# Altium integrated library Capacitors - Ceramic - 0402.IntLib: 4569 symbols (part 57 of 100)
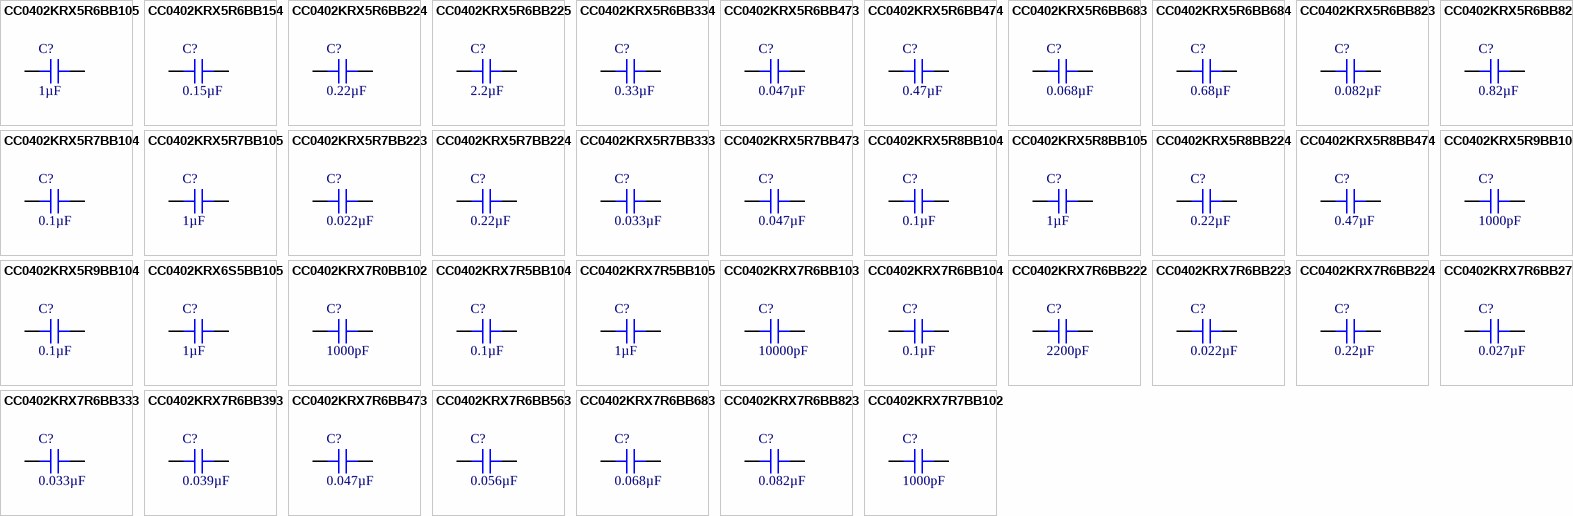
[diagram p170: symbols CC0402KRX5R6BB105 to CC0402KRX7R7BB102]

## CC0402KRX6S5BB105
designator C?, comment 1µF
CAP CER 1UF 6.3V X6S 0402; Part Number: CC0402KRX6S5BB105; Manufacturer: Yageo; Tolerance: ±10%; Value: 1µF; Applications: General Purpose; Capacitance: 1µF; ComponentLink1Description: Datasheet; ComponentLink1URL: http://www.yageo.com/NewPortal/_en/search/productDocs.jsp?YageoPartNumber=CC0402KRX6S5BB105; ComponentLink2Description: DigiKey Link; ComponentLink2URL: http://digikey.com/product-detail/en/yageo/CC0402KRX6S5BB105/311-1700-1-ND/5195602; Device Package: 0402 (1005 Metric); LastUpdated: 9/2/2020 1:02:14 AM; Lifecycle Status: Active; Minimum Order: 1; Mounting Type: Surface Mount, MLCC; Operating Temperature: -55°C ~ 105°C; Package / Case: 0402 (1005 Metric); Packaging: TapeAndReel; PartId: 6532; Part Status: Active; Price: 0.04; Series: CC; Size / Dimension: 0.039" L x 0.020" W (1.00mm x 0.50mm); Supplier 1: DigiKey; Supplier Part Number 1: 311-1700-1-ND; Temperature Coefficient: X6S; Thickness (Max): 0.022" (0.55mm); Voltage - Rated: 6.3V
footprint CAP 0402_1005
pins: 1, 2

## CC0402KRX7R0BB102
designator C?, comment 1000pF
CAP CER 1000PF 100V X7R 0402; Part Number: CC0402KRX7R0BB102; Manufacturer: Yageo; Tolerance: ±10%; Value: 1000pF; Applications: General Purpose; Capacitance: 1000pF; ComponentLink1Description: Datasheet; ComponentLink1URL: https://www.yageo.com/upload/media/product/productsearch/datasheet/mlcc/UPY-GPHC_X7R_6.3V-to-50V_18.pdf; ComponentLink2Description: DigiKey Link; ComponentLink2URL: http://digikey.com/product-detail/en/yageo/CC0402KRX7R0BB102/311-3791-1-ND/8024880; Device Package: 0402 (1005 Metric); LastUpdated: 9/2/2020 1:02:24 AM; Lifecycle Status: Active; Minimum Order: 1; Mounting Type: Surface Mount, MLCC; Operating Temperature: -55°C ~ 125°C; Package / Case: 0402 (1005 Metric); Packaging: TapeAndReel; PartId: 2076; Part Status: Active; Price: 0.02; Series: CC; Size / Dimension: 0.039" L x 0.020" W (1.00mm x 0.50mm); Supplier 1: DigiKey; Supplier Part Number 1: 311-3791-1-ND; Temperature Coefficient: X7R; Thickness (Max): 0.022" (0.55mm); Voltage - Rated: 100V
footprint CAP 0402_1005
pins: 1, 2

## CC0402KRX7R5BB104
designator C?, comment 0.1µF
CAP CER 0.1UF 6.3V X7R 0402; Part Number: CC0402KRX7R5BB104; Manufacturer: Yageo; Tolerance: ±10%; Value: 0.1µF; Applications: General Purpose; Capacitance: 0.1µF; ComponentLink1Description: Datasheet; ComponentLink1URL: https://www.yageo.com/upload/media/product/productsearch/datasheet/mlcc/UPY-GPHC_X7R_6.3V-to-50V_18.pdf; ComponentLink2Description: DigiKey Link; ComponentLink2URL: http://digikey.com/product-detail/en/yageo/CC0402KRX7R5BB104/311-1701-1-ND/5195603; Device Package: 0402 (1005 Metric); LastUpdated: 9/2/2020 1:01:39 AM; Lifecycle Status: Active; Minimum Order: 1; Mounting Type: Surface Mount, MLCC; Operating Temperature: -55°C ~ 125°C; Package / Case: 0402 (1005 Metric); Packaging: TapeAndReel; PartId: 12548; Part Status: Active; Price: 0.01; Series: CC; Size / Dimension: 0.039" L x 0.020" W (1.00mm x 0.50mm); Supplier 1: DigiKey; Supplier Part Number 1: 311-1701-1-ND; Temperature Coefficient: X7R; Thickness (Max): 0.022" (0.55mm); Voltage - Rated: 6.3V
footprint CAP 0402_1005
pins: 1, 2

## CC0402KRX7R5BB105
designator C?, comment 1µF
CAP CER 1UF 6.3V X7R 0402; Part Number: CC0402KRX7R5BB105; Manufacturer: Yageo; Tolerance: ±10%; Value: 1µF; Applications: General Purpose; Capacitance: 1µF; ComponentLink1Description: Datasheet; ComponentLink1URL: https://www.yageo.com/upload/media/product/productsearch/datasheet/mlcc/UPY-GPHC_X7R_6.3V-to-50V_18.pdf; ComponentLink2Description: DigiKey Link; ComponentLink2URL: http://digikey.com/product-detail/en/yageo/CC0402KRX7R5BB105/311-1702-1-ND/5195604; Device Package: 0402 (1005 Metric); LastUpdated: 9/2/2020 1:02:15 AM; Lifecycle Status: Active; Minimum Order: 1; Mounting Type: Surface Mount, MLCC; Operating Temperature: -55°C ~ 125°C; Package / Case: 0402 (1005 Metric); Packaging: TapeAndReel; PartId: 5755; Part Status: Active; Price: 0.05; Series: CC; Size / Dimension: 0.039" L x 0.020" W (1.00mm x 0.50mm); Supplier 1: DigiKey; Supplier Part Number 1: 311-1702-1-ND; Temperature Coefficient: X7R; Thickness (Max): 0.022" (0.55mm); Voltage - Rated: 6.3V
footprint CAP 0402_1005
pins: 1, 2

## CC0402KRX7R6BB103
designator C?, comment 10000pF
CAP CER 10000PF 10V X7R 0402; Part Number: CC0402KRX7R6BB103; Manufacturer: Yageo; Tolerance: ±10%; Value: 10000pF; Applications: General Purpose; Capacitance: 10000pF; ComponentLink1Description: Datasheet; ComponentLink1URL: https://www.yageo.com/upload/media/product/productsearch/datasheet/mlcc/UPY-GPHC_X7R_6.3V-to-50V_18.pdf; ComponentLink2Description: DigiKey Link; ComponentLink2URL: http://digikey.com/product-detail/en/yageo/CC0402KRX7R6BB103/311-1703-1-ND/5195605; Device Package: 0402 (1005 Metric); LastUpdated: 9/2/2020 1:02:06 AM; Lifecycle Status: Active; Minimum Order: 1; Mounting Type: Surface Mount, MLCC; Operating Temperature: -55°C ~ 125°C; Package / Case: 0402 (1005 Metric); Packaging: CutTape; PartId: 9970; Part Status: Active; Price: 0.10; Series: CC; Size / Dimension: 0.039" L x 0.020" W (1.00mm x 0.50mm); Supplier 1: DigiKey; Supplier Part Number 1: 311-1703-1-ND; Temperature Coefficient: X7R; Thickness (Max): 0.022" (0.55mm); Voltage - Rated: 10V
footprint CAP 0402_1005
pins: 1, 2

## CC0402KRX7R6BB104
designator C?, comment 0.1µF
CAP CER 0.1UF 10V X7R 0402; Part Number: CC0402KRX7R6BB104; Manufacturer: Yageo; Tolerance: ±10%; Value: 0.1µF; Applications: General Purpose; Capacitance: 0.1µF; ComponentLink1Description: Datasheet; ComponentLink1URL: https://www.yageo.com/upload/media/product/productsearch/datasheet/mlcc/UPY-GPHC_X7R_6.3V-to-50V_18.pdf; ComponentLink2Description: DigiKey Link; ComponentLink2URL: http://digikey.com/product-detail/en/yageo/CC0402KRX7R6BB104/311-1345-1-ND/2103129; Device Package: 0402 (1005 Metric); LastUpdated: 9/2/2020 1:02:20 AM; Lifecycle Status: Active; Minimum Order: 1; Mounting Type: Surface Mount, MLCC; Operating Temperature: -55°C ~ 125°C; Package / Case: 0402 (1005 Metric); Packaging: CutTape; PartId: 3877; Part Status: Active; Price: 0.10; Series: CC; Size / Dimension: 0.039" L x 0.020" W (1.00mm x 0.50mm); Supplier 1: DigiKey; Supplier Part Number 1: 311-1345-1-ND; Temperature Coefficient: X7R; Thickness (Max): 0.022" (0.55mm); Voltage - Rated: 10V
footprint CAP 0402_1005
pins: 1, 2

## CC0402KRX7R6BB222
designator C?, comment 2200pF
CAP CER 2200PF 10V X7R 0402; Part Number: CC0402KRX7R6BB222; Manufacturer: Yageo; Tolerance: ±10%; Value: 2200pF; Applications: General Purpose; Capacitance: 2200pF; ComponentLink1Description: Datasheet; ComponentLink1URL: https://www.yageo.com/upload/media/product/productsearch/datasheet/mlcc/UPY-GPHC_X7R_6.3V-to-50V_18.pdf; ComponentLink2Description: DigiKey Link; ComponentLink2URL: http://digikey.com/product-detail/en/yageo/CC0402KRX7R6BB222/311-3792-1-ND/8024881; Device Package: 0402 (1005 Metric); LastUpdated: 9/2/2020 1:02:19 AM; Lifecycle Status: Active; Minimum Order: 1; Mounting Type: Surface Mount, MLCC; Operating Temperature: -55°C ~ 125°C; Package / Case: 0402 (1005 Metric); Packaging: CutTape; PartId: 3950; Part Status: Active; Price: 0.10; Series: CC; Size / Dimension: 0.039" L x 0.020" W (1.00mm x 0.50mm); Supplier 1: DigiKey; Supplier Part Number 1: 311-3792-1-ND; Temperature Coefficient: X7R; Thickness (Max): 0.022" (0.55mm); Voltage - Rated: 10V
footprint CAP 0402_1005
pins: 1, 2

## CC0402KRX7R6BB223
designator C?, comment 0.022µF
CAP CER 0.022UF 10V X7R 0402; Part Number: CC0402KRX7R6BB223; Manufacturer: Yageo; Tolerance: ±10%; Value: 0.022µF; Applications: General Purpose; Capacitance: 0.022µF; ComponentLink1Description: Datasheet; ComponentLink1URL: https://www.yageo.com/upload/media/product/productsearch/datasheet/mlcc/UPY-GPHC_X7R_6.3V-to-50V_18.pdf; ComponentLink2Description: DigiKey Link; ComponentLink2URL: http://digikey.com/product-detail/en/yageo/CC0402KRX7R6BB223/311-3793-1-ND/8024882; Device Package: 0402 (1005 Metric); LastUpdated: 9/2/2020 1:02:19 AM; Lifecycle Status: Active; Minimum Order: 1; Mounting Type: Surface Mount, MLCC; Operating Temperature: -55°C ~ 125°C; Package / Case: 0402 (1005 Metric); Packaging: TapeAndReel; PartId: 4019; Part Status: Active; Price: 0.01; Series: CC; Size / Dimension: 0.039" L x 0.020" W (1.00mm x 0.50mm); Supplier 1: DigiKey; Supplier Part Number 1: 311-3793-1-ND; Temperature Coefficient: X7R; Thickness (Max): 0.022" (0.55mm); Voltage - Rated: 10V
footprint CAP 0402_1005
pins: 1, 2

## CC0402KRX7R6BB224
designator C?, comment 0.22µF
CAP CER 0.22UF 10V X7R 0402; Part Number: CC0402KRX7R6BB224; Manufacturer: Yageo; Tolerance: ±10%; Value: 0.22µF; Applications: General Purpose; Capacitance: 0.22µF; ComponentLink1Description: Datasheet; ComponentLink1URL: https://www.yageo.com/upload/media/product/productsearch/datasheet/mlcc/UPY-GPHC_X7R_6.3V-to-50V_18.pdf; ComponentLink2Description: DigiKey Link; ComponentLink2URL: http://digikey.com/product-detail/en/yageo/CC0402KRX7R6BB224/311-3343-1-ND/6818313; Device Package: 0402 (1005 Metric); LastUpdated: 9/2/2020 1:02:14 AM; Lifecycle Status: Active; Minimum Order: 1; Mounting Type: Surface Mount, MLCC; Operating Temperature: -55°C ~ 125°C; Package / Case: 0402 (1005 Metric); Packaging: TapeAndReel; PartId: 6528; Part Status: Active; Price: 0.02; Series: CC; Size / Dimension: 0.039" L x 0.020" W (1.00mm x 0.50mm); Supplier 1: DigiKey; Supplier Part Number 1: 311-3343-1-ND; Temperature Coefficient: X7R; Thickness (Max): 0.022" (0.55mm); Voltage - Rated: 10V
footprint CAP 0402_1005
pins: 1, 2

## CC0402KRX7R6BB273
designator C?, comment 0.027µF
CAP CER 0.027UF 10V X7R 0402; Part Number: CC0402KRX7R6BB273; Manufacturer: Yageo; Tolerance: ±10%; Value: 0.027µF; Applications: General Purpose; Capacitance: 0.027µF; ComponentLink1Description: Datasheet; ComponentLink1URL: https://www.yageo.com/upload/media/product/productsearch/datasheet/mlcc/UPY-GPHC_X7R_6.3V-to-50V_18.pdf; ComponentLink2Description: DigiKey Link; ComponentLink2URL: http://digikey.com/product-detail/en/yageo/CC0402KRX7R6BB273/311-3794-1-ND/8024883; Device Package: 0402 (1005 Metric); LastUpdated: 9/2/2020 1:02:03 AM; Lifecycle Status: Active; Minimum Order: 1; Mounting Type: Surface Mount, MLCC; Operating Temperature: -55°C ~ 125°C; Package / Case: 0402 (1005 Metric); Packaging: TapeAndReel; PartId: 11315; Part Status: Active; Price: 0.01; Series: CC; Size / Dimension: 0.039" L x 0.020" W (1.00mm x 0.50mm); Supplier 1: DigiKey; Supplier Part Number 1: 311-3794-1-ND; Temperature Coefficient: X7R; Thickness (Max): 0.022" (0.55mm); Voltage - Rated: 10V
footprint CAP 0402_1005
pins: 1, 2

## CC0402KRX7R6BB333
designator C?, comment 0.033µF
CAP CER 0.033UF 10V X7R 0402; Part Number: CC0402KRX7R6BB333; Manufacturer: Yageo; Tolerance: ±10%; Value: 0.033µF; Applications: General Purpose; Capacitance: 0.033µF; ComponentLink1Description: Datasheet; ComponentLink1URL: https://www.yageo.com/upload/media/product/productsearch/datasheet/mlcc/UPY-GPHC_X7R_6.3V-to-50V_18.pdf; ComponentLink2Description: DigiKey Link; ComponentLink2URL: http://digikey.com/product-detail/en/yageo/CC0402KRX7R6BB333/311-1704-1-ND/5195606; Device Package: 0402 (1005 Metric); LastUpdated: 9/2/2020 1:01:37 AM; Lifecycle Status: Active; Minimum Order: 1; Mounting Type: Surface Mount, MLCC; Operating Temperature: -55°C ~ 125°C; Package / Case: 0402 (1005 Metric); Packaging: TapeAndReel; PartId: 12651; Part Status: Active; Price: 0.01; Series: CC; Size / Dimension: 0.039" L x 0.020" W (1.00mm x 0.50mm); Supplier 1: DigiKey; Supplier Part Number 1: 311-1704-1-ND; Temperature Coefficient: X7R; Thickness (Max): 0.022" (0.55mm); Voltage - Rated: 10V
footprint CAP 0402_1005
pins: 1, 2

## CC0402KRX7R6BB393
designator C?, comment 0.039µF
CAP CER 0.039UF 10V X7R 0402; Part Number: CC0402KRX7R6BB393; Manufacturer: Yageo; Tolerance: ±10%; Value: 0.039µF; Applications: General Purpose; Capacitance: 0.039µF; ComponentLink1Description: Datasheet; ComponentLink1URL: https://www.yageo.com/upload/media/product/productsearch/datasheet/mlcc/UPY-GPHC_X7R_6.3V-to-50V_18.pdf; ComponentLink2Description: DigiKey Link; ComponentLink2URL: http://digikey.com/product-detail/en/yageo/CC0402KRX7R6BB393/311-3795-1-ND/8024884; Device Package: 0402 (1005 Metric); LastUpdated: 9/2/2020 1:02:24 AM; Lifecycle Status: Active; Minimum Order: 1; Mounting Type: Surface Mount, MLCC; Operating Temperature: -55°C ~ 125°C; Package / Case: 0402 (1005 Metric); Packaging: TapeAndReel; PartId: 2035; Part Status: Active; Price: 0.01; Series: CC; Size / Dimension: 0.039" L x 0.020" W (1.00mm x 0.50mm); Supplier 1: DigiKey; Supplier Part Number 1: 311-3795-1-ND; Temperature Coefficient: X7R; Thickness (Max): 0.022" (0.55mm); Voltage - Rated: 10V
footprint CAP 0402_1005
pins: 1, 2

## CC0402KRX7R6BB473
designator C?, comment 0.047µF
CAP CER 0.047UF 10V X7R 0402; Part Number: CC0402KRX7R6BB473; Manufacturer: Yageo; Tolerance: ±10%; Value: 0.047µF; Applications: General Purpose; Capacitance: 0.047µF; ComponentLink1Description: Datasheet; ComponentLink1URL: https://www.yageo.com/upload/media/product/productsearch/datasheet/mlcc/UPY-GPHC_X7R_6.3V-to-50V_18.pdf; ComponentLink2Description: DigiKey Link; ComponentLink2URL: http://digikey.com/product-detail/en/yageo/CC0402KRX7R6BB473/311-1334-1-ND/2103118; Device Package: 0402 (1005 Metric); LastUpdated: 9/2/2020 1:02:17 AM; Lifecycle Status: Active; Minimum Order: 1; Mounting Type: Surface Mount, MLCC; Operating Temperature: -55°C ~ 125°C; Package / Case: 0402 (1005 Metric); Packaging: CutTape; PartId: 4860; Part Status: Active; Price: 0.10; Series: CC; Size / Dimension: 0.039" L x 0.020" W (1.00mm x 0.50mm); Supplier 1: DigiKey; Supplier Part Number 1: 311-1334-1-ND; Temperature Coefficient: X7R; Thickness (Max): 0.022" (0.55mm); Voltage - Rated: 10V
footprint CAP 0402_1005
pins: 1, 2

## CC0402KRX7R6BB563
designator C?, comment 0.056µF
CAP CER 0.056UF 10V X7R 0402; Part Number: CC0402KRX7R6BB563; Manufacturer: Yageo; Tolerance: ±10%; Value: 0.056µF; Applications: General Purpose; Capacitance: 0.056µF; ComponentLink1Description: Datasheet; ComponentLink1URL: https://www.yageo.com/upload/media/product/productsearch/datasheet/mlcc/UPY-GPHC_X7R_6.3V-to-50V_18.pdf; ComponentLink2Description: DigiKey Link; ComponentLink2URL: http://digikey.com/product-detail/en/yageo/CC0402KRX7R6BB563/311-3797-1-ND/8024886; Device Package: 0402 (1005 Metric); LastUpdated: 9/2/2020 1:02:12 AM; Lifecycle Status: Active; Minimum Order: 1; Mounting Type: Surface Mount, MLCC; Operating Temperature: -55°C ~ 125°C; Package / Case: 0402 (1005 Metric); Packaging: TapeAndReel; PartId: 7136; Part Status: Active; Price: 0.01; Series: CC; Size / Dimension: 0.039" L x 0.020" W (1.00mm x 0.50mm); Supplier 1: DigiKey; Supplier Part Number 1: 311-3797-1-ND; Temperature Coefficient: X7R; Thickness (Max): 0.022" (0.55mm); Voltage - Rated: 10V
footprint CAP 0402_1005
pins: 1, 2

## CC0402KRX7R6BB683
designator C?, comment 0.068µF
CAP CER 0.068UF 10V X7R 0402; Part Number: CC0402KRX7R6BB683; Manufacturer: Yageo; Tolerance: ±10%; Value: 0.068µF; Applications: General Purpose; Capacitance: 0.068µF; ComponentLink1Description: Datasheet; ComponentLink1URL: https://www.yageo.com/upload/media/product/productsearch/datasheet/mlcc/UPY-GPHC_X7R_6.3V-to-50V_18.pdf; ComponentLink2Description: DigiKey Link; ComponentLink2URL: http://digikey.com/product-detail/en/yageo/CC0402KRX7R6BB683/311-3798-1-ND/8024887; Device Package: 0402 (1005 Metric); LastUpdated: 9/2/2020 1:01:36 AM; Lifecycle Status: Active; Minimum Order: 1; Mounting Type: Surface Mount, MLCC; Operating Temperature: -55°C ~ 125°C; Package / Case: 0402 (1005 Metric); Packaging: TapeAndReel; PartId: 12661; Part Status: Active; Price: 0.01; Series: CC; Size / Dimension: 0.039" L x 0.020" W (1.00mm x 0.50mm); Supplier 1: DigiKey; Supplier Part Number 1: 311-3798-1-ND; Temperature Coefficient: X7R; Thickness (Max): 0.022" (0.55mm); Voltage - Rated: 10V
footprint CAP 0402_1005
pins: 1, 2

## CC0402KRX7R6BB823
designator C?, comment 0.082µF
CAP CER 0.082UF 10V X7R 0402; Part Number: CC0402KRX7R6BB823; Manufacturer: Yageo; Tolerance: ±10%; Value: 0.082µF; Applications: General Purpose; Capacitance: 0.082µF; ComponentLink1Description: Datasheet; ComponentLink1URL: https://www.yageo.com/upload/media/product/productsearch/datasheet/mlcc/UPY-GPHC_X7R_6.3V-to-50V_18.pdf; ComponentLink2Description: DigiKey Link; ComponentLink2URL: http://digikey.com/product-detail/en/yageo/CC0402KRX7R6BB823/311-3799-1-ND/8024888; Device Package: 0402 (1005 Metric); LastUpdated: 9/2/2020 1:02:06 AM; Lifecycle Status: Active; Minimum Order: 1; Mounting Type: Surface Mount, MLCC; Operating Temperature: -55°C ~ 125°C; Package / Case: 0402 (1005 Metric); Packaging: TapeAndReel; PartId: 10061; Part Status: Active; Price: 0.01; Series: CC; Size / Dimension: 0.039" L x 0.020" W (1.00mm x 0.50mm); Supplier 1: DigiKey; Supplier Part Number 1: 311-3799-1-ND; Temperature Coefficient: X7R; Thickness (Max): 0.022" (0.55mm); Voltage - Rated: 10V
footprint CAP 0402_1005
pins: 1, 2

## CC0402KRX7R7BB102
designator C?, comment 1000pF
CAP CER 1000PF 16V X7R 0402; Part Number: CC0402KRX7R7BB102; Manufacturer: Yageo; Tolerance: ±10%; Value: 1000pF; Applications: General Purpose; Capacitance: 1000pF; ComponentLink1Description: Datasheet; ComponentLink1URL: https://www.yageo.com/upload/media/product/productsearch/datasheet/mlcc/UPY-GPHC_X7R_6.3V-to-50V_18.pdf; ComponentLink2Description: DigiKey Link; ComponentLink2URL: http://digikey.com/product-detail/en/yageo/CC0402KRX7R7BB102/311-1352-1-ND/2103136; Device Package: 0402 (1005 Metric); LastUpdated: 9/2/2020 1:02:17 AM; Lifecycle Status: Active; Minimum Order: 1; Mounting Type: Surface Mount, MLCC; Operating Temperature: -55°C ~ 125°C; Package / Case: 0402 (1005 Metric); Packaging: CutTape; PartId: 4770; Part Status: Active; Price: 0.10; Series: CC; Size / Dimension: 0.039" L x 0.020" W (1.00mm x 0.50mm); Supplier 1: DigiKey; Supplier Part Number 1: 311-1352-1-ND; Temperature Coefficient: X7R; Thickness (Max): 0.022" (0.55mm); Voltage - Rated: 16V
footprint CAP 0402_1005
pins: 1, 2

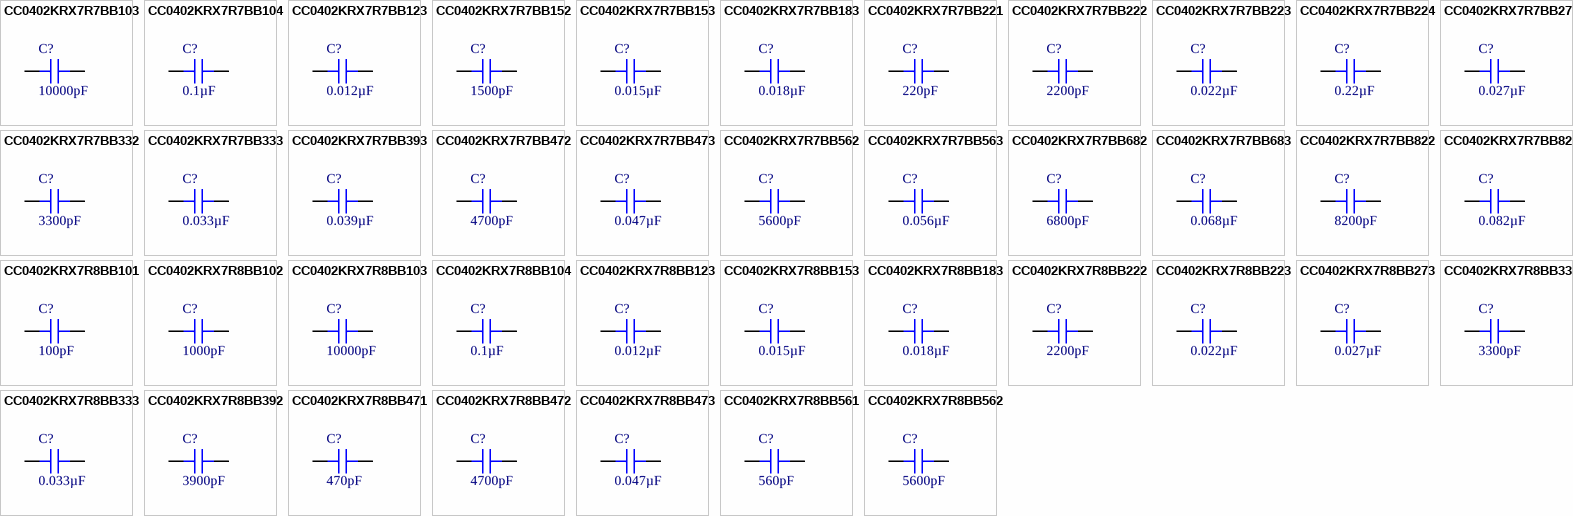
[diagram p65: symbols CC0402KRX7R7BB103 to CC0402KRX7R8BB562]

## CC0402KRX7R7BB103
designator C?, comment 10000pF
CAP CER 10000PF 16V X7R 0402; Part Number: CC0402KRX7R7BB103; Manufacturer: Yageo; Tolerance: ±10%; Value: 10000pF; Applications: General Purpose; Capacitance: 10000pF; ComponentLink1Description: Datasheet; ComponentLink1URL: https://www.yageo.com/upload/media/product/productsearch/datasheet/mlcc/UPY-GPHC_X7R_6.3V-to-50V_18.pdf; ComponentLink2Description: DigiKey Link; ComponentLink2URL: http://digikey.com/product-detail/en/yageo/CC0402KRX7R7BB103/311-1042-1-ND/302959; Device Package: 0402 (1005 Metric); LastUpdated: 9/2/2020 1:02:13 AM; Lifecycle Status: Active; Minimum Order: 1; Mounting Type: Surface Mount, MLCC; Operating Temperature: -55°C ~ 125°C; Package / Case: 0402 (1005 Metric); Packaging: CutTape; PartId: 6679; Part Status: Active; Price: 0.10; Series: CC; Size / Dimension: 0.039" L x 0.020" W (1.00mm x 0.50mm); Supplier 1: DigiKey; Supplier Part Number 1: 311-1042-1-ND; Temperature Coefficient: X7R; Thickness (Max): 0.022" (0.55mm); Voltage - Rated: 16V
footprint CAP 0402_1005
pins: 1, 2

## CC0402KRX7R7BB104
designator C?, comment 0.1µF
CAP CER 0.1UF 16V X7R 0402; Part Number: CC0402KRX7R7BB104; Manufacturer: Yageo; Tolerance: ±10%; Value: 0.1µF; Applications: General Purpose; Capacitance: 0.1µF; ComponentLink1Description: Datasheet; ComponentLink1URL: https://www.yageo.com/upload/media/product/productsearch/datasheet/mlcc/UPY-GPHC_X7R_6.3V-to-50V_18.pdf; ComponentLink2Description: DigiKey Link; ComponentLink2URL: http://digikey.com/product-detail/en/yageo/CC0402KRX7R7BB104/311-1338-1-ND/2103122; Device Package: 0402 (1005 Metric); LastUpdated: 9/2/2020 1:02:19 AM; Lifecycle Status: Active; Minimum Order: 1; Mounting Type: Surface Mount, MLCC; Operating Temperature: -55°C ~ 125°C; Package / Case: 0402 (1005 Metric); Packaging: TapeAndReel; PartId: 4014; Part Status: Active; Price: 0.01; Series: CC; Size / Dimension: 0.039" L x 0.020" W (1.00mm x 0.50mm); Supplier 1: DigiKey; Supplier Part Number 1: 311-1338-1-ND; Temperature Coefficient: X7R; Thickness (Max): 0.022" (0.55mm); Voltage - Rated: 16V
footprint CAP 0402_1005
pins: 1, 2

## CC0402KRX7R7BB123
designator C?, comment 0.012µF
CAP CER 0.012UF 16V X7R 0402; Part Number: CC0402KRX7R7BB123; Manufacturer: Yageo; Tolerance: ±10%; Value: 0.012µF; Applications: General Purpose; Capacitance: 0.012µF; ComponentLink1Description: Datasheet; ComponentLink1URL: https://www.yageo.com/upload/media/product/productsearch/datasheet/mlcc/UPY-GPHC_X7R_6.3V-to-50V_18.pdf; ComponentLink2Description: DigiKey Link; ComponentLink2URL: http://digikey.com/product-detail/en/yageo/CC0402KRX7R7BB123/311-3800-1-ND/8024889; Device Package: 0402 (1005 Metric); LastUpdated: 9/2/2020 1:02:10 AM; Lifecycle Status: Active; Minimum Order: 1; Mounting Type: Surface Mount, MLCC; Operating Temperature: -55°C ~ 125°C; Package / Case: 0402 (1005 Metric); Packaging: TapeAndReel; PartId: 8152; Part Status: Active; Price: 0.01; Series: CC; Size / Dimension: 0.039" L x 0.020" W (1.00mm x 0.50mm); Supplier 1: DigiKey; Supplier Part Number 1: 311-3800-1-ND; Temperature Coefficient: X7R; Thickness (Max): 0.022" (0.55mm); Voltage - Rated: 16V
footprint CAP 0402_1005
pins: 1, 2

## CC0402KRX7R7BB152
designator C?, comment 1500pF
CAP CER 1500PF 16V X7R 0402; Part Number: CC0402KRX7R7BB152; Manufacturer: Yageo; Tolerance: ±10%; Value: 1500pF; Applications: General Purpose; Capacitance: 1500pF; ComponentLink1Description: Datasheet; ComponentLink1URL: https://www.yageo.com/upload/media/product/productsearch/datasheet/mlcc/UPY-GPHC_X7R_6.3V-to-50V_18.pdf; ComponentLink2Description: DigiKey Link; ComponentLink2URL: http://digikey.com/product-detail/en/yageo/CC0402KRX7R7BB152/311-3344-1-ND/6818314; Device Package: 0402 (1005 Metric); LastUpdated: 9/2/2020 1:02:05 AM; Lifecycle Status: Active; Minimum Order: 1; Mounting Type: Surface Mount, MLCC; Operating Temperature: -55°C ~ 125°C; Package / Case: 0402 (1005 Metric); Packaging: CutTape; PartId: 10260; Part Status: Active; Price: 0.10; Series: CC; Size / Dimension: 0.039" L x 0.020" W (1.00mm x 0.50mm); Supplier 1: DigiKey; Supplier Part Number 1: 311-3344-1-ND; Temperature Coefficient: X7R; Thickness (Max): 0.022" (0.55mm); Voltage - Rated: 16V
footprint CAP 0402_1005
pins: 1, 2

## CC0402KRX7R7BB153
designator C?, comment 0.015µF
CAP CER 0.015UF 16V X7R 0402; Part Number: CC0402KRX7R7BB153; Manufacturer: Yageo; Tolerance: ±10%; Value: 0.015µF; Applications: General Purpose; Capacitance: 0.015µF; ComponentLink1Description: Datasheet; ComponentLink1URL: https://www.yageo.com/upload/media/product/productsearch/datasheet/mlcc/UPY-GPHC_X7R_6.3V-to-50V_18.pdf; ComponentLink2Description: DigiKey Link; ComponentLink2URL: http://digikey.com/product-detail/en/yageo/CC0402KRX7R7BB153/311-1705-1-ND/5195607; Device Package: 0402 (1005 Metric); LastUpdated: 9/2/2020 1:01:36 AM; Lifecycle Status: Active; Minimum Order: 1; Mounting Type: Surface Mount, MLCC; Operating Temperature: -55°C ~ 125°C; Package / Case: 0402 (1005 Metric); Packaging: TapeAndReel; PartId: 12658; Part Status: Active; Price: 0.01; Series: CC; Size / Dimension: 0.039" L x 0.020" W (1.00mm x 0.50mm); Supplier 1: DigiKey; Supplier Part Number 1: 311-1705-1-ND; Temperature Coefficient: X7R; Thickness (Max): 0.022" (0.55mm); Voltage - Rated: 16V
footprint CAP 0402_1005
pins: 1, 2

## CC0402KRX7R7BB183
designator C?, comment 0.018µF
CAP CER 0.018UF 16V X7R 0402; Part Number: CC0402KRX7R7BB183; Manufacturer: Yageo; Tolerance: ±10%; Value: 0.018µF; Applications: General Purpose; Capacitance: 0.018µF; ComponentLink1Description: Datasheet; ComponentLink1URL: https://www.yageo.com/upload/media/product/productsearch/datasheet/mlcc/UPY-GPHC_X7R_6.3V-to-50V_18.pdf; ComponentLink2Description: DigiKey Link; ComponentLink2URL: http://digikey.com/product-detail/en/yageo/CC0402KRX7R7BB183/311-1706-1-ND/5195608; Device Package: 0402 (1005 Metric); LastUpdated: 9/2/2020 1:02:22 AM; Lifecycle Status: Active; Minimum Order: 1; Mounting Type: Surface Mount, MLCC; Operating Temperature: -55°C ~ 125°C; Package / Case: 0402 (1005 Metric); Packaging: TapeAndReel; PartId: 2745; Part Status: Active; Price: 0.01; Series: CC; Size / Dimension: 0.039" L x 0.020" W (1.00mm x 0.50mm); Supplier 1: DigiKey; Supplier Part Number 1: 311-1706-1-ND; Temperature Coefficient: X7R; Thickness (Max): 0.022" (0.55mm); Voltage - Rated: 16V
footprint CAP 0402_1005
pins: 1, 2

## CC0402KRX7R7BB221
designator C?, comment 220pF
CAP CER 220PF 16V X7R 0402; Part Number: CC0402KRX7R7BB221; Manufacturer: Yageo; Tolerance: ±10%; Value: 220pF; Applications: General Purpose; Capacitance: 220pF; ComponentLink1Description: Datasheet; ComponentLink1URL: https://www.yageo.com/upload/media/product/productsearch/datasheet/mlcc/UPY-GPHC_X7R_6.3V-to-50V_18.pdf; ComponentLink2Description: DigiKey Link; ComponentLink2URL: http://digikey.com/product-detail/en/yageo/CC0402KRX7R7BB221/311-3801-1-ND/8024890; Device Package: 0402 (1005 Metric); LastUpdated: 9/2/2020 1:02:19 AM; Lifecycle Status: Active; Minimum Order: 1; Mounting Type: Surface Mount, MLCC; Operating Temperature: -55°C ~ 125°C; Package / Case: 0402 (1005 Metric); Packaging: CutTape; PartId: 3941; Part Status: Active; Price: 0.10; Series: CC; Size / Dimension: 0.039" L x 0.020" W (1.00mm x 0.50mm); Supplier 1: DigiKey; Supplier Part Number 1: 311-3801-1-ND; Temperature Coefficient: X7R; Thickness (Max): 0.022" (0.55mm); Voltage - Rated: 16V
footprint CAP 0402_1005
pins: 1, 2

## CC0402KRX7R7BB222
designator C?, comment 2200pF
CAP CER 2200PF 16V X7R 0402; Part Number: CC0402KRX7R7BB222; Manufacturer: Yageo; Tolerance: ±10%; Value: 2200pF; Applications: General Purpose; Capacitance: 2200pF; ComponentLink1Description: Datasheet; ComponentLink1URL: https://www.yageo.com/upload/media/product/productsearch/datasheet/mlcc/UPY-GPHC_X7R_6.3V-to-50V_18.pdf; ComponentLink2Description: DigiKey Link; ComponentLink2URL: http://digikey.com/product-detail/en/yageo/CC0402KRX7R7BB222/311-1707-1-ND/5195609; Device Package: 0402 (1005 Metric); LastUpdated: 9/2/2020 1:02:20 AM; Lifecycle Status: Active; Minimum Order: 1; Mounting Type: Surface Mount, MLCC; Operating Temperature: -55°C ~ 125°C; Package / Case: 0402 (1005 Metric); Packaging: CutTape; PartId: 3928; Part Status: Active; Price: 0.10; Series: CC; Size / Dimension: 0.039" L x 0.020" W (1.00mm x 0.50mm); Supplier 1: DigiKey; Supplier Part Number 1: 311-1707-1-ND; Temperature Coefficient: X7R; Thickness (Max): 0.022" (0.55mm); Voltage - Rated: 16V
footprint CAP 0402_1005
pins: 1, 2

## CC0402KRX7R7BB223
designator C?, comment 0.022µF
CAP CER 0.022UF 16V X7R 0402; Part Number: CC0402KRX7R7BB223; Manufacturer: Yageo; Tolerance: ±10%; Value: 0.022µF; Applications: General Purpose; Capacitance: 0.022µF; ComponentLink1Description: Datasheet; ComponentLink1URL: https://www.yageo.com/upload/media/product/productsearch/datasheet/mlcc/UPY-GPHC_X7R_6.3V-to-50V_18.pdf; ComponentLink2Description: DigiKey Link; ComponentLink2URL: http://digikey.com/product-detail/en/yageo/CC0402KRX7R7BB223/311-1378-1-ND/2103162; Device Package: 0402 (1005 Metric); LastUpdated: 9/2/2020 1:02:19 AM; Lifecycle Status: Active; Minimum Order: 1; Mounting Type: Surface Mount, MLCC; Operating Temperature: -55°C ~ 125°C; Package / Case: 0402 (1005 Metric); Packaging: CutTape; PartId: 3969; Part Status: Active; Price: 0.10; Series: CC; Size / Dimension: 0.039" L x 0.020" W (1.00mm x 0.50mm); Supplier 1: DigiKey; Supplier Part Number 1: 311-1378-1-ND; Temperature Coefficient: X7R; Thickness (Max): 0.022" (0.55mm); Voltage - Rated: 16V
footprint CAP 0402_1005
pins: 1, 2

## CC0402KRX7R7BB224
designator C?, comment 0.22µF
CAP CER 0.22UF 16V X7R 0402; Part Number: CC0402KRX7R7BB224; Manufacturer: Yageo; Tolerance: ±10%; Value: 0.22µF; Applications: General Purpose; Capacitance: 0.22µF; ComponentLink1Description: Datasheet; ComponentLink1URL: https://www.yageo.com/upload/website/yageo_ProductSelectionGuide_2018_Final_19050817_528.pdf; ComponentLink2Description: DigiKey Link; ComponentLink2URL: http://digikey.com/product-detail/en/yageo/CC0402KRX7R7BB224/311-1708-1-ND/5195610; Device Package: 0402 (1005 Metric); LastUpdated: 9/2/2020 1:02:19 AM; Lifecycle Status: Active; Minimum Order: 1; Mounting Type: Surface Mount, MLCC; Operating Temperature: -55°C ~ 125°C; Package / Case: 0402 (1005 Metric); Packaging: TapeAndReel; PartId: 4141; Part Status: Active; Price: 0.02; Series: CC; Size / Dimension: 0.039" L x 0.020" W (1.00mm x 0.50mm); Supplier 1: DigiKey; Supplier Part Number 1: 311-1708-1-ND; Temperature Coefficient: X7R; Thickness (Max): 0.022" (0.55mm); Voltage - Rated: 16V
footprint CAP 0402_1005
pins: 1, 2

## CC0402KRX7R7BB273
designator C?, comment 0.027µF
CAP CER 0.027UF 16V X7R 0402; Part Number: CC0402KRX7R7BB273; Manufacturer: Yageo; Tolerance: ±10%; Value: 0.027µF; Applications: General Purpose; Capacitance: 0.027µF; ComponentLink1Description: Datasheet; ComponentLink1URL: https://www.yageo.com/upload/media/product/productsearch/datasheet/mlcc/UPY-GPHC_X7R_6.3V-to-50V_18.pdf; ComponentLink2Description: DigiKey Link; ComponentLink2URL: http://digikey.com/product-detail/en/yageo/CC0402KRX7R7BB273/311-3802-1-ND/8024891; Device Package: 0402 (1005 Metric); LastUpdated: 9/2/2020 1:02:03 AM; Lifecycle Status: Active; Minimum Order: 1; Mounting Type: Surface Mount, MLCC; Operating Temperature: -55°C ~ 125°C; Package / Case: 0402 (1005 Metric); Packaging: TapeAndReel; PartId: 11326; Part Status: Active; Price: 0.01; Series: CC; Size / Dimension: 0.039" L x 0.020" W (1.00mm x 0.50mm); Supplier 1: DigiKey; Supplier Part Number 1: 311-3802-1-ND; Temperature Coefficient: X7R; Thickness (Max): 0.022" (0.55mm); Voltage - Rated: 16V
footprint CAP 0402_1005
pins: 1, 2

## CC0402KRX7R7BB332
designator C?, comment 3300pF
CAP CER 3300PF 16V X7R 0402; Part Number: CC0402KRX7R7BB332; Manufacturer: Yageo; Tolerance: ±10%; Value: 3300pF; Applications: General Purpose; Capacitance: 3300pF; ComponentLink1Description: Datasheet; ComponentLink1URL: https://www.yageo.com/upload/media/product/productsearch/datasheet/mlcc/UPY-GPHC_X7R_6.3V-to-50V_18.pdf; ComponentLink2Description: DigiKey Link; ComponentLink2URL: http://digikey.com/product-detail/en/yageo/CC0402KRX7R7BB332/311-3803-1-ND/8024892; Device Package: 0402 (1005 Metric); LastUpdated: 9/2/2020 1:02:19 AM; Lifecycle Status: Active; Minimum Order: 1; Mounting Type: Surface Mount, MLCC; Operating Temperature: -55°C ~ 125°C; Package / Case: 0402 (1005 Metric); Packaging: CutTape; PartId: 3953; Part Status: Active; Price: 0.10; Series: CC; Size / Dimension: 0.039" L x 0.020" W (1.00mm x 0.50mm); Supplier 1: DigiKey; Supplier Part Number 1: 311-3803-1-ND; Temperature Coefficient: X7R; Thickness (Max): 0.022" (0.55mm); Voltage - Rated: 16V
footprint CAP 0402_1005
pins: 1, 2

## CC0402KRX7R7BB333
designator C?, comment 0.033µF
CAP CER 0.033UF 16V X7R 0402; Part Number: CC0402KRX7R7BB333; Manufacturer: Yageo; Tolerance: ±10%; Value: 0.033µF; Applications: General Purpose; Capacitance: 0.033µF; ComponentLink1Description: Datasheet; ComponentLink1URL: https://www.yageo.com/upload/media/product/productsearch/datasheet/mlcc/UPY-GPHC_X7R_6.3V-to-50V_18.pdf; ComponentLink2Description: DigiKey Link; ComponentLink2URL: http://digikey.com/product-detail/en/yageo/CC0402KRX7R7BB333/311-1420-1-ND/2833726; Device Package: 0402 (1005 Metric); LastUpdated: 9/2/2020 1:01:40 AM; Lifecycle Status: Active; Minimum Order: 1; Mounting Type: Surface Mount, MLCC; Operating Temperature: -55°C ~ 125°C; Package / Case: 0402 (1005 Metric); Packaging: TapeAndReel; PartId: 12533; Part Status: Active; Price: 0.01; Series: CC; Size / Dimension: 0.039" L x 0.020" W (1.00mm x 0.50mm); Supplier 1: DigiKey; Supplier Part Number 1: 311-1420-1-ND; Temperature Coefficient: X7R; Thickness (Max): 0.022" (0.55mm); Voltage - Rated: 16V
footprint CAP 0402_1005
pins: 1, 2

## CC0402KRX7R7BB393
designator C?, comment 0.039µF
CAP CER 0.039UF 16V X7R 0402; Part Number: CC0402KRX7R7BB393; Manufacturer: Yageo; Tolerance: ±10%; Value: 0.039µF; Applications: General Purpose; Capacitance: 0.039µF; ComponentLink1Description: Datasheet; ComponentLink1URL: https://www.yageo.com/upload/media/product/productsearch/datasheet/mlcc/UPY-GPHC_X7R_6.3V-to-50V_18.pdf; ComponentLink2Description: DigiKey Link; ComponentLink2URL: http://digikey.com/product-detail/en/yageo/CC0402KRX7R7BB393/311-3804-1-ND/8024893; Device Package: 0402 (1005 Metric); LastUpdated: 9/2/2020 1:02:24 AM; Lifecycle Status: Active; Minimum Order: 1; Mounting Type: Surface Mount, MLCC; Operating Temperature: -55°C ~ 125°C; Package / Case: 0402 (1005 Metric); Packaging: TapeAndReel; PartId: 1963; Part Status: Active; Price: 0.01; Series: CC; Size / Dimension: 0.039" L x 0.020" W (1.00mm x 0.50mm); Supplier 1: DigiKey; Supplier Part Number 1: 311-3804-1-ND; Temperature Coefficient: X7R; Thickness (Max): 0.022" (0.55mm); Voltage - Rated: 16V
footprint CAP 0402_1005
pins: 1, 2

## CC0402KRX7R7BB472
designator C?, comment 4700pF
CAP CER 4700PF 16V X7R 0402; Part Number: CC0402KRX7R7BB472; Manufacturer: Yageo; Tolerance: ±10%; Value: 4700pF; Applications: General Purpose; Capacitance: 4700pF; ComponentLink1Description: Datasheet; ComponentLink1URL: https://www.yageo.com/upload/media/product/productsearch/datasheet/mlcc/UPY-GPHC_X7R_6.3V-to-50V_18.pdf; ComponentLink2Description: DigiKey Link; ComponentLink2URL: http://digikey.com/product-detail/en/yageo/CC0402KRX7R7BB472/311-1709-1-ND/5195611; Device Package: 0402 (1005 Metric); LastUpdated: 9/2/2020 1:02:20 AM; Lifecycle Status: Active; Minimum Order: 1; Mounting Type: Surface Mount, MLCC; Operating Temperature: -55°C ~ 125°C; Package / Case: 0402 (1005 Metric); Packaging: CutTape; PartId: 3918; Part Status: Active; Price: 0.10; Series: CC; Size / Dimension: 0.039" L x 0.020" W (1.00mm x 0.50mm); Supplier 1: DigiKey; Supplier Part Number 1: 311-1709-1-ND; Temperature Coefficient: X7R; Thickness (Max): 0.022" (0.55mm); Voltage - Rated: 16V
footprint CAP 0402_1005
pins: 1, 2

## CC0402KRX7R7BB473
designator C?, comment 0.047µF
CAP CER 0.047UF 16V X7R 0402; Part Number: CC0402KRX7R7BB473; Manufacturer: Yageo; Tolerance: ±10%; Value: 0.047µF; Applications: General Purpose; Capacitance: 0.047µF; ComponentLink1Description: Datasheet; ComponentLink1URL: https://www.yageo.com/upload/media/product/productsearch/datasheet/mlcc/UPY-GPHC_X7R_6.3V-to-50V_18.pdf; ComponentLink2Description: DigiKey Link; ComponentLink2URL: http://digikey.com/product-detail/en/yageo/CC0402KRX7R7BB473/311-1362-1-ND/2103146; Device Package: 0402 (1005 Metric); LastUpdated: 9/2/2020 1:02:17 AM; Lifecycle Status: Active; Minimum Order: 1; Mounting Type: Surface Mount, MLCC; Operating Temperature: -55°C ~ 125°C; Package / Case: 0402 (1005 Metric); Packaging: CutTape; PartId: 4857; Part Status: Active; Price: 0.10; Series: CC; Size / Dimension: 0.039" L x 0.020" W (1.00mm x 0.50mm); Supplier 1: DigiKey; Supplier Part Number 1: 311-1362-1-ND; Temperature Coefficient: X7R; Thickness (Max): 0.022" (0.55mm); Voltage - Rated: 16V
footprint CAP 0402_1005
pins: 1, 2

## CC0402KRX7R7BB562
designator C?, comment 5600pF
CAP CER 5600PF 16V X7R 0402; Part Number: CC0402KRX7R7BB562; Manufacturer: Yageo; Tolerance: ±10%; Value: 5600pF; Applications: General Purpose; Capacitance: 5600pF; ComponentLink1Description: Datasheet; ComponentLink1URL: https://www.yageo.com/upload/media/product/productsearch/datasheet/mlcc/UPY-GPHC_X7R_6.3V-to-50V_18.pdf; ComponentLink2Description: DigiKey Link; ComponentLink2URL: http://digikey.com/product-detail/en/yageo/CC0402KRX7R7BB562/311-1040-1-ND/302957; Device Package: 0402 (1005 Metric); LastUpdated: 9/2/2020 1:02:19 AM; Lifecycle Status: Active; Minimum Order: 1; Mounting Type: Surface Mount, MLCC; Operating Temperature: -55°C ~ 125°C; Package / Case: 0402 (1005 Metric); Packaging: TapeAndReel; PartId: 4043; Part Status: Active; Price: 0.01; Series: CC; Size / Dimension: 0.039" L x 0.020" W (1.00mm x 0.50mm); Supplier 1: DigiKey; Supplier Part Number 1: 311-1040-1-ND; Temperature Coefficient: X7R; Thickness (Max): 0.022" (0.55mm); Voltage - Rated: 16V
footprint CAP 0402_1005
pins: 1, 2

## CC0402KRX7R7BB563
designator C?, comment 0.056µF
CAP CER 0.056UF 16V X7R 0402; Part Number: CC0402KRX7R7BB563; Manufacturer: Yageo; Tolerance: ±10%; Value: 0.056µF; Applications: General Purpose; Capacitance: 0.056µF; ComponentLink1Description: Datasheet; ComponentLink1URL: https://www.yageo.com/upload/media/product/productsearch/datasheet/mlcc/UPY-GPHC_X7R_6.3V-to-50V_18.pdf; ComponentLink2Description: DigiKey Link; ComponentLink2URL: http://digikey.com/product-detail/en/yageo/CC0402KRX7R7BB563/311-3805-1-ND/8024894; Device Package: 0402 (1005 Metric); LastUpdated: 9/2/2020 1:02:03 AM; Lifecycle Status: Active; Minimum Order: 1; Mounting Type: Surface Mount, MLCC; Operating Temperature: -55°C ~ 125°C; Package / Case: 0402 (1005 Metric); Packaging: TapeAndReel; PartId: 11320; Part Status: Active; Price: 0.01; Series: CC; Size / Dimension: 0.039" L x 0.020" W (1.00mm x 0.50mm); Supplier 1: DigiKey; Supplier Part Number 1: 311-3805-1-ND; Temperature Coefficient: X7R; Thickness (Max): 0.022" (0.55mm); Voltage - Rated: 16V
footprint CAP 0402_1005
pins: 1, 2

## CC0402KRX7R7BB682
designator C?, comment 6800pF
CAP CER 6800PF 16V X7R 0402; Part Number: CC0402KRX7R7BB682; Manufacturer: Yageo; Tolerance: ±10%; Value: 6800pF; Applications: General Purpose; Capacitance: 6800pF; ComponentLink1Description: Datasheet; ComponentLink1URL: https://www.yageo.com/upload/media/product/productsearch/datasheet/mlcc/UPY-GPHC_X7R_6.3V-to-50V_18.pdf; ComponentLink2Description: DigiKey Link; ComponentLink2URL: http://digikey.com/product-detail/en/yageo/CC0402KRX7R7BB682/311-3806-1-ND/8024895; Device Package: 0402 (1005 Metric); LastUpdated: 9/2/2020 1:02:24 AM; Lifecycle Status: Active; Minimum Order: 1; Mounting Type: Surface Mount, MLCC; Operating Temperature: -55°C ~ 125°C; Package / Case: 0402 (1005 Metric); Packaging: CutTape; PartId: 1943; Part Status: Active; Price: 0.10; Series: CC; Size / Dimension: 0.039" L x 0.020" W (1.00mm x 0.50mm); Supplier 1: DigiKey; Supplier Part Number 1: 311-3806-1-ND; Temperature Coefficient: X7R; Thickness (Max): 0.022" (0.55mm); Voltage - Rated: 16V
footprint CAP 0402_1005
pins: 1, 2

## CC0402KRX7R7BB683
designator C?, comment 0.068µF
CAP CER 0.068UF 16V X7R 0402; Part Number: CC0402KRX7R7BB683; Manufacturer: Yageo; Tolerance: ±10%; Value: 0.068µF; Applications: General Purpose; Capacitance: 0.068µF; ComponentLink1Description: Datasheet; ComponentLink1URL: https://www.yageo.com/upload/media/product/productsearch/datasheet/mlcc/UPY-GPHC_X7R_6.3V-to-50V_18.pdf; ComponentLink2Description: DigiKey Link; ComponentLink2URL: http://digikey.com/product-detail/en/yageo/CC0402KRX7R7BB683/311-1710-1-ND/5195612; Device Package: 0402 (1005 Metric); LastUpdated: 9/2/2020 1:01:36 AM; Lifecycle Status: Active; Minimum Order: 1; Mounting Type: Surface Mount, MLCC; Operating Temperature: -55°C ~ 125°C; Package / Case: 0402 (1005 Metric); Packaging: TapeAndReel; PartId: 12663; Part Status: Active; Price: 0.01; Series: CC; Size / Dimension: 0.039" L x 0.020" W (1.00mm x 0.50mm); Supplier 1: DigiKey; Supplier Part Number 1: 311-1710-1-ND; Temperature Coefficient: X7R; Thickness (Max): 0.022" (0.55mm); Voltage - Rated: 16V
footprint CAP 0402_1005
pins: 1, 2

## CC0402KRX7R7BB822
designator C?, comment 8200pF
CAP CER 8200PF 16V X7R 0402; Part Number: CC0402KRX7R7BB822; Manufacturer: Yageo; Tolerance: ±10%; Value: 8200pF; Applications: General Purpose; Capacitance: 8200pF; ComponentLink1Description: Datasheet; ComponentLink1URL: https://www.yageo.com/upload/media/product/productsearch/datasheet/mlcc/UPY-GPHC_X7R_6.3V-to-50V_18.pdf; ComponentLink2Description: DigiKey Link; ComponentLink2URL: http://digikey.com/product-detail/en/yageo/CC0402KRX7R7BB822/311-1041-1-ND/302958; Device Package: 0402 (1005 Metric); LastUpdated: 9/2/2020 1:02:17 AM; Lifecycle Status: Active; Minimum Order: 1; Mounting Type: Surface Mount, MLCC; Operating Temperature: -55°C ~ 125°C; Package / Case: 0402 (1005 Metric); Packaging: CutTape; PartId: 4826; Part Status: Active; Price: 0.10; Series: CC; Size / Dimension: 0.039" L x 0.020" W (1.00mm x 0.50mm); Supplier 1: DigiKey; Supplier Part Number 1: 311-1041-1-ND; Temperature Coefficient: X7R; Thickness (Max): 0.022" (0.55mm); Voltage - Rated: 16V
footprint CAP 0402_1005
pins: 1, 2

## CC0402KRX7R7BB823
designator C?, comment 0.082µF
CAP CER 0.082UF 16V X7R 0402; Part Number: CC0402KRX7R7BB823; Manufacturer: Yageo; Tolerance: ±10%; Value: 0.082µF; Applications: General Purpose; Capacitance: 0.082µF; ComponentLink1Description: Datasheet; ComponentLink1URL: https://www.yageo.com/upload/media/product/productsearch/datasheet/mlcc/UPY-GPHC_X7R_6.3V-to-50V_18.pdf; ComponentLink2Description: DigiKey Link; ComponentLink2URL: http://digikey.com/product-detail/en/yageo/CC0402KRX7R7BB823/311-1711-1-ND/5195613; Device Package: 0402 (1005 Metric); LastUpdated: 9/2/2020 1:02:06 AM; Lifecycle Status: Active; Minimum Order: 1; Mounting Type: Surface Mount, MLCC; Operating Temperature: -55°C ~ 125°C; Package / Case: 0402 (1005 Metric); Packaging: TapeAndReel; PartId: 10002; Part Status: Active; Price: 0.01; Series: CC; Size / Dimension: 0.039" L x 0.020" W (1.00mm x 0.50mm); Supplier 1: DigiKey; Supplier Part Number 1: 311-1711-1-ND; Temperature Coefficient: X7R; Thickness (Max): 0.022" (0.55mm); Voltage - Rated: 16V
footprint CAP 0402_1005
pins: 1, 2

## CC0402KRX7R8BB101
designator C?, comment 100pF
CAP CER 100PF 25V X7R 0402; Part Number: CC0402KRX7R8BB101; Manufacturer: Yageo; Tolerance: ±10%; Value: 100pF; Applications: General Purpose; Capacitance: 100pF; ComponentLink1Description: Datasheet; ComponentLink1URL: https://www.yageo.com/upload/media/product/productsearch/datasheet/mlcc/UPY-GPHC_X7R_6.3V-to-50V_18.pdf; ComponentLink2Description: DigiKey Link; ComponentLink2URL: http://digikey.com/product-detail/en/yageo/CC0402KRX7R8BB101/311-3807-1-ND/8024896; Device Package: 0402 (1005 Metric); LastUpdated: 9/2/2020 1:02:19 AM; Lifecycle Status: Active; Minimum Order: 1; Mounting Type: Surface Mount, MLCC; Operating Temperature: -55°C ~ 125°C; Package / Case: 0402 (1005 Metric); Packaging: CutTape; PartId: 3935; Part Status: Active; Price: 0.10; Series: CC; Size / Dimension: 0.039" L x 0.020" W (1.00mm x 0.50mm); Supplier 1: DigiKey; Supplier Part Number 1: 311-3807-1-ND; Temperature Coefficient: X7R; Thickness (Max): 0.022" (0.55mm); Voltage - Rated: 25V
footprint CAP 0402_1005
pins: 1, 2

## CC0402KRX7R8BB102
designator C?, comment 1000pF
CAP CER 1000PF 25V X7R 0402; Part Number: CC0402KRX7R8BB102; Manufacturer: Yageo; Tolerance: ±10%; Value: 1000pF; Applications: General Purpose; Capacitance: 1000pF; ComponentLink1Description: Datasheet; ComponentLink1URL: https://www.yageo.com/upload/media/product/productsearch/datasheet/mlcc/UPY-GPHC_X7R_6.3V-to-50V_18.pdf; ComponentLink2Description: DigiKey Link; ComponentLink2URL: http://digikey.com/product-detail/en/yageo/CC0402KRX7R8BB102/311-1712-1-ND/5195614; Device Package: 0402 (1005 Metric); LastUpdated: 9/2/2020 1:02:20 AM; Lifecycle Status: Active; Minimum Order: 1; Mounting Type: Surface Mount, MLCC; Operating Temperature: -55°C ~ 125°C; Package / Case: 0402 (1005 Metric); Packaging: CutTape; PartId: 3848; Part Status: Active; Price: 0.10; Series: CC; Size / Dimension: 0.039" L x 0.020" W (1.00mm x 0.50mm); Supplier 1: DigiKey; Supplier Part Number 1: 311-1712-1-ND; Temperature Coefficient: X7R; Thickness (Max): 0.022" (0.55mm); Voltage - Rated: 25V
footprint CAP 0402_1005
pins: 1, 2

## CC0402KRX7R8BB103
designator C?, comment 10000pF
CAP CER 10000PF 25V X7R 0402; Part Number: CC0402KRX7R8BB103; Manufacturer: Yageo; Tolerance: ±10%; Value: 10000pF; Applications: General Purpose; Capacitance: 10000pF; ComponentLink1Description: Datasheet; ComponentLink1URL: https://www.yageo.com/upload/media/product/productsearch/datasheet/mlcc/UPY-GPHC_X7R_6.3V-to-50V_18.pdf; ComponentLink2Description: DigiKey Link; ComponentLink2URL: http://digikey.com/product-detail/en/yageo/CC0402KRX7R8BB103/311-1337-1-ND/2103121; Device Package: 0402 (1005 Metric); LastUpdated: 9/2/2020 1:02:13 AM; Lifecycle Status: Active; Minimum Order: 1; Mounting Type: Surface Mount, MLCC; Operating Temperature: -55°C ~ 125°C; Package / Case: 0402 (1005 Metric); Packaging: CutTape; PartId: 6684; Part Status: Active; Price: 0.10; Series: CC; Size / Dimension: 0.039" L x 0.020" W (1.00mm x 0.50mm); Supplier 1: DigiKey; Supplier Part Number 1: 311-1337-1-ND; Temperature Coefficient: X7R; Thickness (Max): 0.022" (0.55mm); Voltage - Rated: 25V
footprint CAP 0402_1005
pins: 1, 2

## CC0402KRX7R8BB104
designator C?, comment 0.1µF
CAP CER 0.1UF 25V X7R 0402; Part Number: CC0402KRX7R8BB104; Manufacturer: Yageo; Tolerance: ±10%; Value: 0.1µF; Applications: General Purpose; Capacitance: 0.1µF; ComponentLink1Description: Datasheet; ComponentLink1URL: https://www.yageo.com/upload/media/product/productsearch/datasheet/mlcc/UPY-GPHC_X7R_6.3V-to-50V_18.pdf; ComponentLink2Description: DigiKey Link; ComponentLink2URL: http://digikey.com/product-detail/en/yageo/CC0402KRX7R8BB104/311-2077-1-ND/5698948; Device Package: 0402 (1005 Metric); LastUpdated: 9/2/2020 1:01:39 AM; Lifecycle Status: Active; Minimum Order: 1; Mounting Type: Surface Mount, MLCC; Operating Temperature: -55°C ~ 125°C; Package / Case: 0402 (1005 Metric); Packaging: TapeAndReel; PartId: 12551; Part Status: Active; Price: 0.01; Series: CC; Size / Dimension: 0.039" L x 0.020" W (1.00mm x 0.50mm); Supplier 1: DigiKey; Supplier Part Number 1: 311-2077-1-ND; Temperature Coefficient: X7R; Thickness (Max): 0.022" (0.55mm); Voltage - Rated: 25V
footprint CAP 0402_1005
pins: 1, 2

## CC0402KRX7R8BB123
designator C?, comment 0.012µF
CAP CER 0.012UF 25V X7R 0402; Part Number: CC0402KRX7R8BB123; Manufacturer: Yageo; Tolerance: ±10%; Value: 0.012µF; Applications: General Purpose; Capacitance: 0.012µF; ComponentLink1Description: Datasheet; ComponentLink1URL: https://www.yageo.com/upload/media/product/productsearch/datasheet/mlcc/UPY-GPHC_X7R_6.3V-to-50V_18.pdf; ComponentLink2Description: DigiKey Link; ComponentLink2URL: http://digikey.com/product-detail/en/yageo/CC0402KRX7R8BB123/311-3808-1-ND/8024897; Device Package: 0402 (1005 Metric); LastUpdated: 9/2/2020 1:02:22 AM; Lifecycle Status: Active; Minimum Order: 1; Mounting Type: Surface Mount, MLCC; Operating Temperature: -55°C ~ 125°C; Package / Case: 0402 (1005 Metric); Packaging: TapeAndReel; PartId: 2687; Part Status: Active; Price: 0.01; Series: CC; Size / Dimension: 0.039" L x 0.020" W (1.00mm x 0.50mm); Supplier 1: DigiKey; Supplier Part Number 1: 311-3808-1-ND; Temperature Coefficient: X7R; Thickness (Max): 0.022" (0.55mm); Voltage - Rated: 25V
footprint CAP 0402_1005
pins: 1, 2

## CC0402KRX7R8BB153
designator C?, comment 0.015µF
CAP CER 0.015UF 25V X7R 0402; Part Number: CC0402KRX7R8BB153; Manufacturer: Yageo; Tolerance: ±10%; Value: 0.015µF; Applications: General Purpose; Capacitance: 0.015µF; ComponentLink1Description: Datasheet; ComponentLink1URL: https://www.yageo.com/upload/media/product/productsearch/datasheet/mlcc/UPY-GPHC_X7R_6.3V-to-50V_18.pdf; ComponentLink2Description: DigiKey Link; ComponentLink2URL: http://digikey.com/product-detail/en/yageo/CC0402KRX7R8BB153/311-1713-1-ND/5195615; Device Package: 0402 (1005 Metric); LastUpdated: 9/2/2020 1:01:37 AM; Lifecycle Status: Active; Minimum Order: 1; Mounting Type: Surface Mount, MLCC; Operating Temperature: -55°C ~ 125°C; Package / Case: 0402 (1005 Metric); Packaging: TapeAndReel; PartId: 12654; Part Status: Active; Price: 0.01; Series: CC; Size / Dimension: 0.039" L x 0.020" W (1.00mm x 0.50mm); Supplier 1: DigiKey; Supplier Part Number 1: 311-1713-1-ND; Temperature Coefficient: X7R; Thickness (Max): 0.022" (0.55mm); Voltage - Rated: 25V
footprint CAP 0402_1005
pins: 1, 2

## CC0402KRX7R8BB183
designator C?, comment 0.018µF
CAP CER 0.018UF 25V X7R 0402; Part Number: CC0402KRX7R8BB183; Manufacturer: Yageo; Tolerance: ±10%; Value: 0.018µF; Applications: General Purpose; Capacitance: 0.018µF; ComponentLink1Description: Datasheet; ComponentLink1URL: https://www.yageo.com/upload/media/product/productsearch/datasheet/mlcc/UPY-GPHC_X7R_6.3V-to-50V_18.pdf; ComponentLink2Description: DigiKey Link; ComponentLink2URL: http://digikey.com/product-detail/en/yageo/CC0402KRX7R8BB183/311-3345-1-ND/6818315; Device Package: 0402 (1005 Metric); LastUpdated: 9/2/2020 1:02:03 AM; Lifecycle Status: Active; Minimum Order: 1; Mounting Type: Surface Mount, MLCC; Operating Temperature: -55°C ~ 125°C; Package / Case: 0402 (1005 Metric); Packaging: TapeAndReel; PartId: 11317; Part Status: Active; Price: 0.01; Series: CC; Size / Dimension: 0.039" L x 0.020" W (1.00mm x 0.50mm); Supplier 1: DigiKey; Supplier Part Number 1: 311-3345-1-ND; Temperature Coefficient: X7R; Thickness (Max): 0.022" (0.55mm); Voltage - Rated: 25V
footprint CAP 0402_1005
pins: 1, 2